# Altium schematic symbol library VBlib_Resistors.SchLib: 12 symbols
Pins are listed as number, name and electrical type; pins without a type are passive.

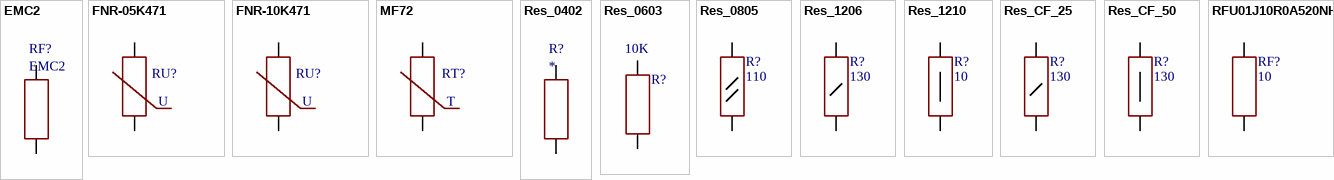
[diagram p0: symbols EMC2 to RFU01J10R0A520NH]

## EMC2
designator RF?
EMC Series Pulse Withstanding Fusible Flameproof Metal Film Resistors
footprint KLS5_VERTICAL
footprint AXIAL-16mm (Axial Device, Thru-Hole; 2 Leads; 18mm Pin Spacing)
pins: 1, 2

## FNR-05K471
designator RU?  (value not drawn)
VARISTOR, 385VDC, 300VAC, 0.2W, D7mm (FENGHUA)
footprint CAP_Y2_5mm (Площадка под Варистор, шаг 5мм)
pins: 1, 2
text: U

## FNR-10K471
designator RU?  (value not drawn)
VARISTOR, 385VDC, 300VAC, 0.4W, D10mm (FENGHUA)
footprint Varistor D10, P=7.5mm (Площадка под Варистор диаметром 10мм, шаг 7.5мм)
pins: 1, 2
text: U

## MF72
designator RT?, comment MF72-33D7  (value not drawn)
Thermistor MF72 Series
footprint Thermistor 5mm (Площадка под термистор, шаг 5мм)
pins: 1, 2
text: T

## Res_0402
designator R?
Res, 0402, 1%, 1/12W
footprint R0402 (Chip Resistor, Body 1.0x0.5mm IPC Medium Density)
pins: 1, 2

## Res_0603
designator R?, comment 10K
Res, 0603, 1%, 1/10W
footprint R0603 (Chip Resistor, Body 1.6x0.8mm IPC Medium Density)
pins: 1, 2

## Res_0805
designator R?, comment 110
Res, 0805, 1%, 1/8W
footprint R0805 (Chip Resistor, Body 2.0x1.3mm, IPC High Density)
pins: 1, 2

## Res_1206
designator R?, comment 130
Res, 1206, 5%, 1/4W
footprint R1206 (Chip Resistor, Body 3.2x1.6mm, IPC High Density)
pins: 1, 2

## Res_1210
designator R?, comment 10
Res, 1210, 5%, 1/2W
footprint R1210
pins: 1, 2

## Res_CF_25
designator R?, comment 130
Res, CF-25 (С1-4-0.25), 5%, 1/4W
footprint CF-25 (Resistor)
footprint CF-25_ver (Resistor)
pins: 1, 2

## Res_CF_50
designator R?, comment 130
Res, CF-50 (С1-4-0.5), 5%, 1/2W
footprint CF-50 (Resistor)
footprint CF-50_ver (Resistor)
pins: 1, 2

## RFU01J10R0A520NH
designator RF?  (value not drawn)
10R 1W 350V HEAT ENERGY SURGE WIRE WOUND FUSIBLE RESISTOR
footprint FUSIBLE-12mm (Axial Device, Thru-Hole; 2 Leads; 18mm Pin Spacing)
footprint FUSIBLE-12mm_vertical
pins: 1, 2
text: 10